# EAGLE library part MPL3115A2 (library EDS_Eagle_Library)
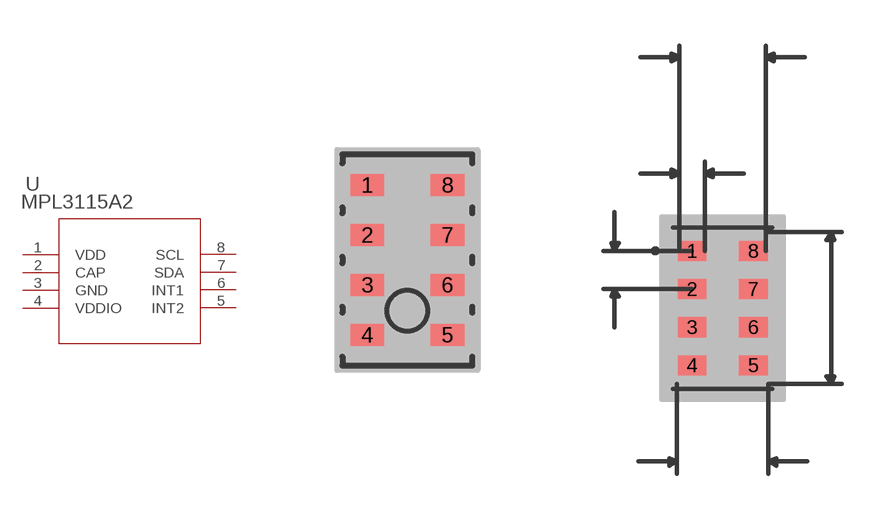
[diagram p1: symbol with the pads of LGA8; footprints LGA8, LGA8-M]

Designator prefix U

## MPL3115A2 (MANUFACTURER_PART_NUMBER: MPL3115A2; VENDOR: Freescale)  [LGA8]
1  VDD  pwr
2  CAP  pas
3  GND  pwr
4  VDDIO  pwr
5  INT2  pas
6  INT1  pas
7  SDA  pas
8  SCL  pas

## MPL3115A2LGA8-M (MANUFACTURER_PART_NUMBER: MPL3115A2; VENDOR: Freescale)  [LGA8-M]
Pads as for LGA8

## MPL3115A2LGA8-L (MANUFACTURER_PART_NUMBER: MPL3115A2; VENDOR: Freescale)  [LGA8-L]
Pads as for LGA8

## Footprint LGA8 (pad centres in mm)
smd 0.838 x 0.559: 1 -1.003,1.875; 2 -1.003,0.625; 3 -1.003,-0.625; 4 -1.003,-1.875; 5 1.003,-1.875; 6 1.003,-0.625; 7 1.003,0.625; 8 1.003,1.875

## Footprint LGA8-M (pad centres in mm)
smd 0.94 x 0.66: 1 -1.003,1.875; 2 -1.003,0.625; 3 -1.003,-0.625; 4 -1.003,-1.875; 5 1.003,-1.875; 6 1.003,-0.625; 7 1.003,0.625; 8 1.003,1.875

## Footprint LGA8-L (pad centres in mm)
smd 0.838 x 0.559: 1 -1.003,1.875; 2 -1.003,0.625; 3 -1.003,-0.625; 4 -1.003,-1.875; 5 1.003,-1.875; 6 1.003,-0.625; 7 1.003,0.625; 8 1.003,1.875